# Altium footprint library EPCOS_B82559AxA024.PcbLib: 1 footprints
Each footprint in its own frame and in the unit in brackets; x right, y up, seen from the top. Pads: shape width x height; smd on the part's side, far side on the other; paste and mask are expansions set on the pad; w line width, h text height; cw(c..) or ccw(c..) is an arc to the next point about the centre after c.
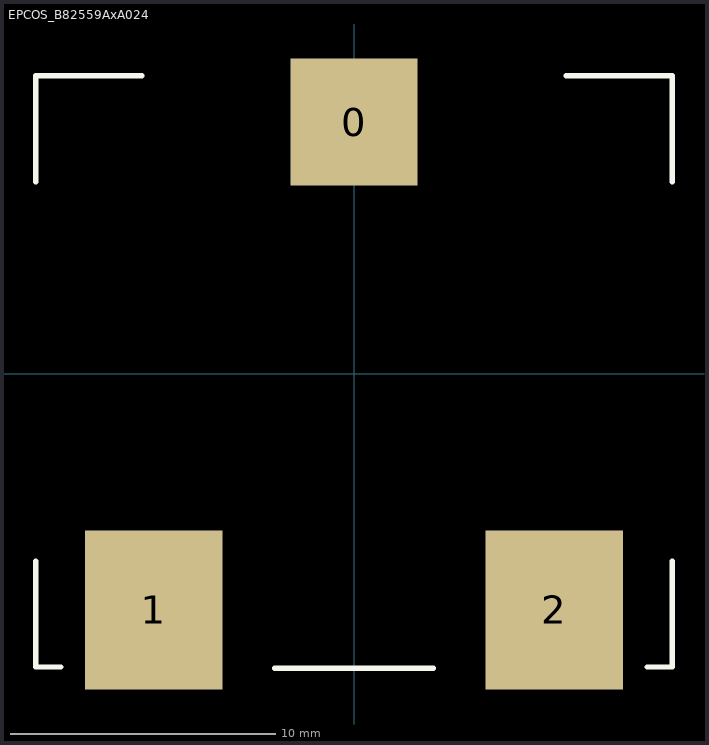
[diagram p0: the footprint, top view; thin cyan lines are the x and y axes]

## EPCOS_B82559AxA024 [mm]
pads (3):
  rect 4.8x4.8 smd: 0(0,9.5)
  rect 5.2x6 smd: 1(-7.55,-8.9) 2(7.55,-8.9)
Top Overlay:
  lines w0.2: -12,-7.05 -12,-11.05 -11.05,-11.05 ; -12,7.25 -12,11.25 -8,11.25 ; -3,-11.1 3,-11.1 ; 8,11.25 12,11.25 12,7.25 ; 11.05,-11.05 12,-11.05 12,-7.05
3D body "New ERU 24.stp": height 21.2, standoff -0.01, extent -11.95,-11.05 11.95,11.2